# Altium schematic symbol library SL_Optoelectronics.SchLib: 1 symbol
Pins are listed as number, name and electrical type; pins without a type are passive.

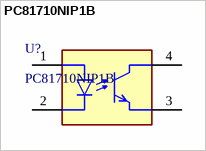
[diagram p0: symbol PC81710NIP1B]

## PC81710NIP1B
designator U?
Photocoupler, 5mA, CE 80V, Isol 5kV; Manufacturer_Name: Sharp Microelectronics; Datasheet Link: https://global.sharp/products/device/lineup/data/pdf/datasheet/PC8171xNSZ1B_e.pdf; Height: 4.2mm; Manufacturer_Part_Number: PC81710NIP1B; Mouser Part Number: 852-PC81710NIP1B; Mouser Price/Stock: https://www.mouser.co.uk/ProductDetail/Sharp-Microelectronics/PC81710NIP1B?qs=MLItCLRbWswN8lAuXmPENg%3D%3D
footprint SOP254P960X420-4N
pins: 1 ANODE, 2 CATHODE, 3 EMITTER, 4 COLLECTOR